# Altium footprint library ModularJack.PcbLib: 10 footprints
Each footprint in its own frame and in the unit in brackets; x right, y up, seen from the top. Pads: shape width x height; smd on the part's side, far side on the other; paste and mask are expansions set on the pad; w line width, h text height; cw(c..) or ccw(c..) is an arc to the next point about the centre after c.
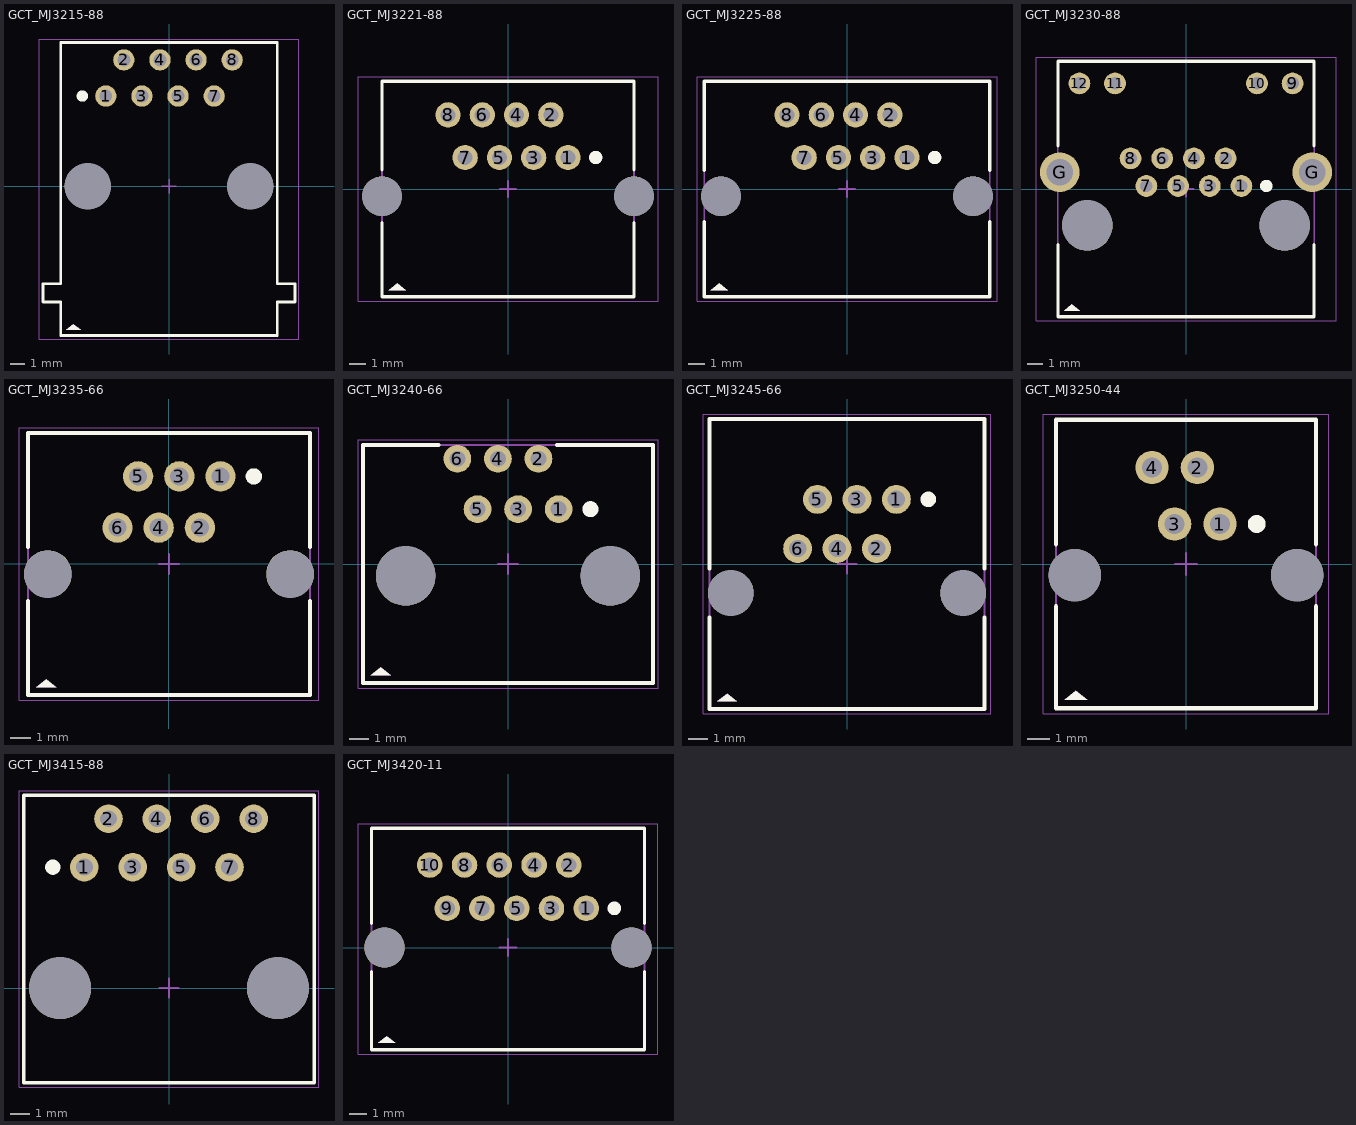
[diagram p0: the footprints below, top view; thin cyan lines are the x and y axes]

## GCT_MJ3215-88 [mm]
height 16
pads (10):
  round 1.5 hole 0.9: 1(-4.445,6.35) 2(-3.175,8.89) 3(-1.905,6.35) 4(-0.635,8.89) 5(0.635,6.35) 6(1.905,8.89) 7(3.175,6.35) 8(4.445,8.89)
  round 3.25 hole 3.25 unplated: ""(-5.715,0) ""(5.715,0)
Top Overlay:
  circle w0.4: c-6.095,6.35 r0.2
  region: -7.22,-10.09 -6.22,-10.09 -6.72,-9.69
  lines w0.2: -8.863,-8.13 -7.62,-8.13 -7.62,-10.49 7.62,-10.49 7.62,-8.13 8.863,-8.13 8.863,-6.86 7.62,-6.86 7.62,10.109 -7.62,10.109 -7.62,-6.86 -8.863,-6.86 -8.863,-8.13
Top Assembly:
  region: -7.22,-10.09 -6.22,-10.09 -6.72,-9.69
  lines w0.1: -8.863,-8.13 -8.863,-6.86 -7.62,-6.86 -7.62,10.109 7.62,10.109 7.62,-6.86 8.863,-6.86 8.863,-8.13 7.62,-8.13 7.62,-10.49 -7.62,-10.49 -7.62,-8.13 -8.863,-8.13
  text "'.Designator'" at -2.417,-0.226 h1
Top Courtyard:
  lines w0.05: -9.119,-10.744 9.119,-10.744 9.119,10.363 -9.119,10.363 -9.119,-10.744
  lines w0.1: -0.5,0 0.5,0 ; 0,-0.5 0,0.5
3D body "MJ3215-88-0-4-P.stp": height 16.06, standoff -3.64, extent -7.625,-10.535 7.615,10.035

## GCT_MJ3221-88 [mm]
height 14.5
pads (10):
  round 1.5 hole 0.9: 1(3.57,1.875) 2(2.55,4.415) 3(1.53,1.875) 4(0.51,4.415) 5(-0.51,1.875) 6(-1.53,4.415) 7(-2.55,1.875) 8(-3.57,4.415)
  round 2.36 hole 2.36 unplated: ""(-7.5,-0.425) ""(7.5,-0.425)
Top Overlay:
  circle w0.4: c5.22,1.875 r0.2
  region: -7.1,-6.025 -6.1,-6.025 -6.6,-5.625
  lines w0.2: -7.5,-2.005 -7.5,-6.425 7.5,-6.425 7.5,-2.005 ; -7.5,1.155 -7.5,6.425 7.5,6.425 7.5,1.155
Top Assembly:
  region: -7.1,-6.025 -6.1,-6.025 -6.6,-5.625
  lines w0.1: -7.5,-6.425 7.5,-6.425 7.5,6.425 -7.5,6.425 -7.5,-6.425
  text "'.Designator'" at -2.417,-0.226 h1
Top Courtyard:
  lines w0.05: -8.93,-6.675 -8.93,6.675 8.93,6.675 8.93,-6.675 -8.93,-6.675
  lines w0.1: -0.5,0 0.5,0 ; 0,-0.5 0,0.5
3D body "mj3221-88-0.stp": height 14.52, standoff -3.28, extent -8.75,-6.45 8.74,6.4

## GCT_MJ3225-88 [mm]
height 14.5
pads (10):
  round 1.5 hole 0.9: 1(3.57,1.875) 2(2.55,4.415) 3(1.53,1.875) 4(0.51,4.415) 5(-0.51,1.875) 6(-1.53,4.415) 7(-2.55,1.875) 8(-3.57,4.415)
  round 2.36 hole 2.36 unplated: ""(-7.5,-0.425) ""(7.5,-0.425)
Top Overlay:
  circle w0.4: c5.22,1.875 r0.2
  region: -8.1,-6.025 -7.1,-6.025 -7.6,-5.625
  lines w0.2: -8.5,-1.955 -8.5,-6.425 8.5,-6.425 8.5,-1.955 ; -8.5,1.105 -8.5,6.425 8.5,6.425 8.5,1.105
Top Assembly:
  region: -8.1,-6.025 -7.1,-6.025 -7.6,-5.625
  lines w0.1: -8.5,-6.425 -8.5,6.425 8.5,6.425 8.5,-6.425 -8.5,-6.425
  text "'.Designator'" at -2.417,-0.226 h1
Top Courtyard:
  lines w0.05: -8.93,-6.675 8.93,-6.675 8.93,6.675 -8.93,6.675 -8.93,-6.675
  lines w0.1: -0.5,0 0.5,0 ; 0,-0.5 0,0.5
3D body "mj3225-88-0.stp": height 14.52, standoff -3.28, extent -8.75,-6.425 8.74,6.425

## GCT_MJ3230-88 [mm]
height 14.93
pads (16):
  round 1.4 hole 0.8: 1(3.57,0.195) 2(2.55,1.975) 3(1.53,0.195) 4(0.51,1.975) 5(-0.51,0.195) 6(-1.53,1.975) 7(-2.55,0.195) 8(-3.57,1.975) 9(6.86,6.795) 10(4.57,6.795) 11(-4.57,6.795) 12(-6.86,6.795)
  round 2.55 hole 1.7: G(-8.13,1.085) G(8.13,1.085)
  round 3.25 hole 3.25 unplated: ""(-6.35,-2.345) ""(6.35,-2.345)
Top Overlay:
  circle w0.4: c5.17,0.195 r0.2
  region: -7.85,-7.825 -6.85,-7.825 -7.35,-7.425
  lines w0.2: -8.25,-3.59 -8.25,-8.225 8.25,-8.225 8.25,-3.59 ; -8.25,2.756 -8.25,8.225 8.25,8.225 8.25,2.756
Top Assembly:
  region: -7.85,-7.825 -6.85,-7.825 -7.35,-7.425
  lines w0.1: -8.25,-8.225 -8.25,8.225 8.25,8.225 8.25,-8.225 -8.25,-8.225
  text "'.Designator'" at -2.417,-0.226 h1
Top Courtyard:
  lines w0.05: -9.655,-8.475 -9.655,8.475 9.655,8.475 9.655,-8.475 -9.655,-8.475
  lines w0.1: -0.5,0 0.5,0 ; 0,-0.5 0,0.5
3D body "mj3230-88-gg-2.stp": height 14.55, standoff -3.47, extent -8.416,-8.379 8.384,8.141

## GCT_MJ3235-66 [mm]
height 14.5
pads (8):
  round 1.5 hole 0.9: 1(2.55,4.34) 2(1.53,1.8) 3(0.51,4.34) 4(-0.51,1.8) 5(-1.53,4.34) 6(-2.55,1.8)
  round 2.36 hole 2.36 unplated: ""(-6,-0.5) ""(6,-0.5)
Top Overlay:
  circle w0.4: c4.2,4.34 r0.2
  region: -6.575,-6.1 -5.575,-6.1 -6.075,-5.7
  lines w0.2: -6.975,-1.833 -6.975,-6.5 6.975,-6.5 6.975,-1.833 ; -6.975,0.833 -6.975,6.5 6.975,6.5 6.975,0.833
Top Assembly:
  region: -6.575,-6.1 -5.575,-6.1 -6.075,-5.7
  lines w0.1: -6.975,-6.5 -6.975,6.5 6.975,6.5 6.975,-6.5 -6.975,-6.5
  text "'.Designator'" at -2.417,-0.226 h1
Top Courtyard:
  lines w0.05: -7.43,-6.75 7.43,-6.75 7.43,6.75 -7.43,6.75 -7.43,-6.75
  lines w0.1: -0.5,0 0.5,0 ; 0,-0.5 0,0.5
3D body "mj3235-66-0.stp": height 14.52, standoff -3.38, extent -7.275,-6.5 7.275,6.5

## GCT_MJ3240-66 [mm]
height 11.75
pads (8):
  round 1.4 hole 0.8: 1(2.55,2.76) 2(1.53,5.3) 3(0.51,2.76) 4(-0.51,5.3) 5(-1.53,2.76) 6(-2.55,5.3)
  round 3 hole 3 unplated: ""(-5.15,-0.6) ""(5.15,-0.6)
Top Overlay:
  circle w0.4: c4.15,2.76 r0.2
  region: -6.9,-5.6 -5.9,-5.6 -6.4,-5.2
  lines w0.2: -3.492,6 -7.3,6 -7.3,-6 7.3,-6 7.3,6 2.472,6
Top Assembly:
  region: -6.9,-5.6 -5.9,-5.6 -6.4,-5.2
  lines w0.1: -7.3,-6 7.3,-6 7.3,6 -7.3,6 -7.3,-6
  text "'.Designator'" at -2.417,-0.226 h1
Top Courtyard:
  lines w0.05: -7.55,-6.25 -7.55,6.25 7.55,6.25 7.55,-6.25 -7.55,-6.25
  lines w0.1: -0.5,0 0.5,0 ; 0,-0.5 0,0.5
3D body "mj3240-66-2.stp": height 11.51, standoff -2.99, extent -7.285,-5.995 7.315,6.005

## GCT_MJ3245-66 [mm]
height 14.4
pads (8):
  round 1.5 hole 0.9: 1(2.55,3.34) 2(1.53,0.8) 3(0.51,3.34) 4(-0.51,0.8) 5(-1.53,3.34) 6(-2.55,0.8)
  round 2.36 hole 2.36 unplated: ""(-6,-1.5) ""(6,-1.5)
Top Overlay:
  circle w0.4: c4.2,3.34 r0.2
  region: -6.7,-7.1 -5.7,-7.1 -6.2,-6.7
  lines w0.2: -7.1,-2.766 -7.1,-7.5 7.1,-7.5 7.1,-2.766 ; -7.1,-0.233 -7.1,7.5 7.1,7.5 7.1,-0.233
Top Assembly:
  region: -6.7,-7.1 -5.7,-7.1 -6.2,-6.7
  lines w0.1: -7.1,-7.5 -7.1,7.5 7.1,7.5 7.1,-7.5 -7.1,-7.5
  text "'.Designator'" at -2.417,-0.226 h1
Top Courtyard:
  lines w0.05: -7.43,-7.75 7.43,-7.75 7.43,7.75 -7.43,7.75 -7.43,-7.75
  lines w0.1: -0.5,0 0.5,0 ; 0,-0.5 0,0.5
3D body "mj3245-66-0.stp": height 14.48, standoff -3.22, extent -7.275,-7.475 7.225,7.525

## GCT_MJ3250-44 [mm]
height 14.5
pads (6):
  round 1.5 hole 0.9: 1(1.53,1.8) 2(0.51,4.34) 3(-0.51,1.8) 4(-1.53,4.34)
  round 2.36 hole 2.36 unplated: ""(-5,-0.5) ""(5,-0.5)
Top Overlay:
  circle w0.4: c3.18,1.8 r0.2
  region: -5.45,-6.1 -4.45,-6.1 -4.95,-5.7
  lines w0.2: -5.85,-1.893 -5.85,-6.5 5.85,-6.5 5.85,-1.893 ; -5.85,0.893 -5.85,6.5 5.85,6.5 5.85,0.893
Top Assembly:
  region: -5.45,-6.1 -4.45,-6.1 -4.95,-5.7
  lines w0.1: -5.85,-6.5 -5.85,6.5 5.85,6.5 5.85,-6.5 -5.85,-6.5
  text "'.Designator'" at -2.417,-0.226 h1
Top Courtyard:
  lines w0.05: -6.43,-6.75 6.43,-6.75 6.43,6.75 -6.43,6.75 -6.43,-6.75
  lines w0.1: -0.5,0 0.5,0 ; 0,-0.5 0,0.5
3D body "MJ3250-44-0.stp": height 14.52, standoff -3.28, extent -6.25,-6.475 6.25,6.525

## GCT_MJ3415-88 [mm]
height 15.7
pads (10):
  round 1.5 hole 0.89: 1(-4.445,6.35) 2(-3.175,8.89) 3(-1.905,6.35) 4(-0.635,8.89) 5(0.635,6.35) 6(1.905,8.89) 7(3.175,6.35) 8(4.445,8.89)
  round 3.25 hole 3.25 unplated: ""(-5.715,0) ""(5.715,0)
Top Overlay:
  circle w0.4: c-6.095,6.35 r0.2
  lines w0.2: -7.62,10.1 -7.62,-4.96 7.62,-4.96 7.62,10.12 -7.62,10.12
Top Assembly:
  lines w0.1: -7.62,-4.96 -7.62,10.12 7.62,10.12 7.62,-4.96 -7.62,-4.96
  text "'.Designator'" at -2.417,-0.226 h1
Top Courtyard:
  lines w0.05: -7.87,-5.21 -7.87,10.37 7.87,10.37 7.87,-5.21 -7.87,-5.21
  lines w0.1: -0.5,0 0.5,0 ; 0,-0.5 0,0.5
3D body "mj3415-88-2.stp": height 15.72, standoff -3.28, extent -7.65,-4.94 7.59,10.14

## GCT_MJ3420-11 [mm]
height 14.5
pads (12):
  round 1.5 hole 0.9: 1(4.59,2.3) 2(3.57,4.84) 3(2.55,2.3) 4(1.53,4.84) 5(0.51,2.3) 6(-0.51,4.84) 7(-1.53,2.3) 8(-2.55,4.84) 9(-3.57,2.3) 10(-4.59,4.84)
  round 2.36 hole 2.36 unplated: ""(-7.25,0) ""(7.25,0)
Top Overlay:
  circle w0.4: c6.24,2.3 r0.2
  region: -7.61,-5.6 -6.61,-5.6 -7.11,-5.2
  lines w0.2: -8.01,-1.43 -8.01,-6 8.01,-6 8.01,-1.43 ; -8.01,1.43 -8.01,7 8.01,7 8.01,1.43
Top Assembly:
  region: -7.61,-5.6 -6.61,-5.6 -7.11,-5.2
  lines w0.1: -8.01,-6 8.01,-6 8.01,7 -8.01,7 -8.01,-6
  text "'.Designator'" at -2.417,-0.226 h1
Top Courtyard:
  lines w0.05: -8.8,-6.25 8.8,-6.25 8.8,7.25 -8.8,7.25 -8.8,-6.25
  lines w0.1: -0.5,0 0.5,0 ; 0,-0.5 0,0.5
3D body "mj3420-11-0-2.stp": height 14.54, standoff -3.46, extent -8.475,-6.075 8.525,6.925